# EAGLE library part PICAXE-08M (library picaxe)
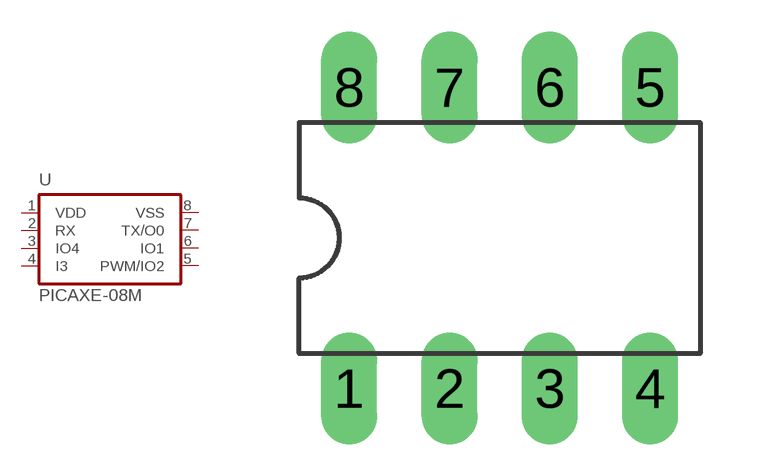
[diagram p2: symbol with the pads of DIL8; footprint DIL8]

Designator prefix -

## PICAXE-08M  [DIL8]
1  VDD  pwr
2  RX  in
3  IO4
4  I3  in
5  PWM/IO2
6  IO1
7  TX/O0  out
8  VSS  pwr

## Footprint DIL8 (pad centres in mm)
drill 0.813 pad 1.422 long: 1 -3.81,-3.81; 2 -1.27,-3.81; 3 1.27,-3.81; 4 3.81,-3.81; 5 3.81,3.81; 6 1.27,3.81; 7 -1.27,3.81; 8 -3.81,3.81